# EAGLE library part BQ24070 (library Zoli2_2015-02-22)
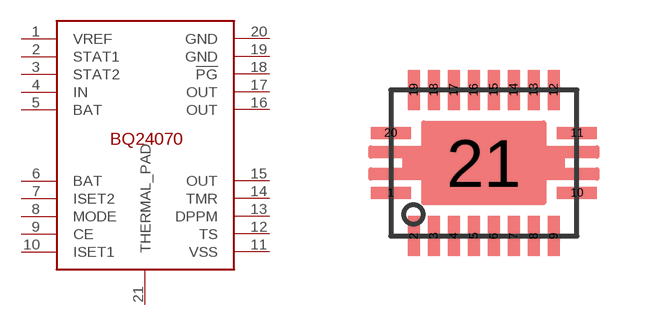
[diagram p65: symbol with the pads of BG24070; footprint BG24070]

Designator prefix -

## BQ24070  [BG24070]
1  VREF  out
2  STAT1  out
3  STAT2  out
4  IN  in
5  BAT
6  BAT
7  ISET2  in
8  MODE  in
9  CE  in
10  ISET1
11  VSS  pwr
12  TS
13  DPPM  in
14  TMR
15  OUT  out
16  OUT  out
17  OUT  out
18  !PG  out
19  GND  pwr
20  GND  pwr
21  THERMAL_PAD

## Footprint BG24070 (pad centres in mm)
smd 1 x 0.3: 1 -2.33,-0.75; 10 2.33,-0.75; 11 2.33,0.75; 20 -2.33,0.75
smd 0.3 x 1: 2 -1.75,-1.83; 3 -1.25,-1.83; 4 -0.75,-1.83; 5 -0.25,-1.83; 6 0.25,-1.83; 7 0.75,-1.83; 8 1.25,-1.83; 9 1.75,-1.83; 12 1.75,1.83; 13 1.25,1.83; 14 0.75,1.83; 15 0.25,1.83; 16 -0.25,1.83; 17 -0.75,1.83; 18 -1.25,1.83; 19 -1.75,1.83
smd 3 x 2: 21 0,0